# Altium footprint library WS-TOTV.PcbLib: 12 footprints
Each footprint in its own frame and in the unit in brackets; x right, y up, seen from the top. Pads: shape width x height; smd on the part's side, far side on the other; paste and mask are expansions set on the pad; w line width, h text height; cw(c..) or ccw(c..) is an arc to the next point about the centre after c.
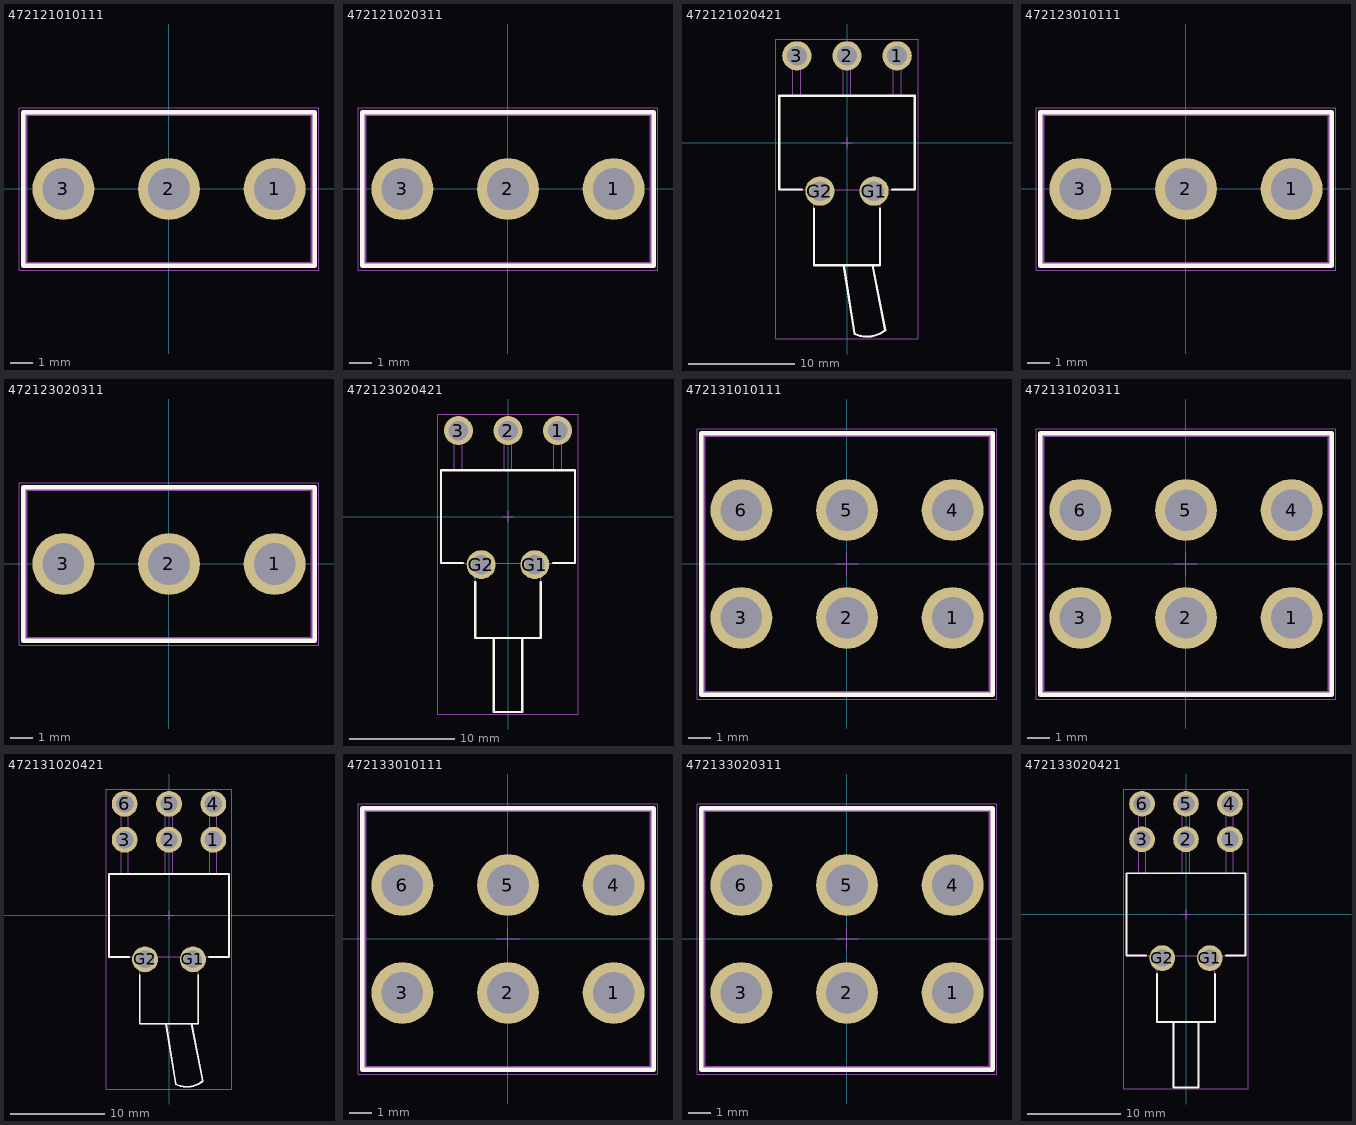
[diagram p0: the footprints below, top view; thin cyan lines are the x and y axes]

## 472121010111 [mm] "THT 6.35mm panel cut out Round actuator with Threaded keyway bushing Toggle Switch"
height 28.2
pads (3):
  round 2.75 hole 1.85: 1(4.7,0) 2(0,0) 3(-4.7,0)
Top Overlay:
  lines w0.2: -6.475,-3.425 6.475,-3.425 6.475,3.425 -6.475,3.425 -6.475,-3.425
Top Designator:
  text ".Designator" at -7.498,-0.5 h1.5
Top Component Outline:
  lines w0.1: -6.35,-3.3 6.35,-3.3 6.35,3.3 -6.35,3.3 -6.35,-3.3
Top Courtyard:
  lines w0.05: -0.5,0 0.5,0 ; 0,-0.5 0,0.5 ; -6.675,-3.625 6.675,-3.625 6.675,3.625 -6.675,3.625 -6.675,-3.625
3D body "472121010111.stp": height 28.88, standoff -6.1, extent -6.35,-3.3 6.35,3.3

## 472121020311 [mm]
height 23.2
pads (3):
  round 2.75 hole 1.85: 1(4.7,0) 2(0,0) 3(-4.7,0)
Top Overlay:
  lines w0.2: -6.475,-3.425 6.475,-3.425 6.475,3.425 -6.475,3.425 -6.475,-3.425
Top Designator:
  text ".Designator" at -7.51,-0.513 h1.5
Top Component Outline:
  lines w0.1: -6.35,-3.3 6.35,-3.3 6.35,3.3 -6.35,3.3 -6.35,-3.3
Top Courtyard:
  lines w0.05: -0.5,0 0.5,0 ; 0,-0.5 0,0.5 ; -6.675,-3.625 6.675,-3.625 6.675,3.625 -6.675,3.625 -6.675,-3.625
3D body "472121020311.stp": height 23.7, standoff -6.1, extent -6.35,-3.3 6.35,3.3

## 472121020421 [mm] "THT 6,35 mm panel cut out Round actuator with Plain keyway bushing Toggle Switch"
height 6.6
pads (5):
  round 2.75 hole 1.85: 1(4.7,8.15) 2(0,8.15) 3(-4.7,8.15) G1(2.54,-4.55) G2(-2.54,-4.55)
Top Overlay:
  lines w0.2: -4.25,-4.4 -6.35,-4.4 -6.35,4.4 6.35,4.4 6.35,-4.4 4.25,-4.4 ; -3.1,-6.2 -3.1,-11.5 3.1,-11.5 3.1,-6.2 ; -0.3,-11.5 0.717,-17.92 ccw(c1.891,-15.531) 3.583,-17.586 2.4,-11.5
Top Designator:
  text ".Designator" at -7.498,-0.5 h1.5
Top Component Outline:
  lines w0.1: -5.075,4.4 -5.075,8.68 -4.325,8.68 -4.325,4.4 ; -3.1,-4.4 -3.1,-11.5 3.1,-11.5 3.1,-4.4 ; -0.375,4.4 -0.375,8.68 0.375,8.68 0.375,4.4 ; -0.3,-11.5 0.717,-17.92 ccw(c1.891,-15.531) 3.583,-17.586 2.4,-11.5 ; 4.325,4.4 4.325,8.68 5.075,8.68 5.075,4.4 ; -6.35,-4.4 6.35,-4.4 6.35,4.4 -6.35,4.4 -6.35,-4.4
Top Courtyard:
  lines w0.05: -0.5,0 0.5,0 ; 0,-0.5 0,0.5 ; -6.675,-18.412 6.675,-18.412 6.675,9.725 -6.675,9.725 -6.675,-18.412
3D body "472121020421.stp": height 7.15, standoff -2.57, extent -6.35,-18.212 6.35,8.68

## 472123010111 [mm] "THT 6,35 mm panel cut out"
height 28.5
pads (3):
  round 2.75 hole 1.85: 1(4.7,0) 2(0,0) 3(-4.7,0)
Top Overlay:
  lines w0.2: -6.475,-3.425 -6.475,3.425 6.475,3.425 6.475,-3.425 -6.475,-3.425
Top Designator:
  text ".Designator" at -7.498,-0.5 h1.5
Top Component Outline:
  lines w0.1: -6.35,-3.3 -6.35,3.3 6.35,3.3 6.35,-3.3 -6.35,-3.3
Top Courtyard:
  lines w0.05: -0.5,0 0.5,0 ; 0,-0.5 0,0.5 ; -6.675,-3.625 -6.675,3.625 6.675,3.625 6.675,-3.625 -6.675,-3.625
3D body "472123010111.stp": height 29, standoff -6.1, extent -6.35,-3.3 6.35,3.3

## 472123020311 [mm]
height 23.4
pads (3):
  round 2.75 hole 1.85: 1(4.7,0) 2(0,0) 3(-4.7,0)
Top Overlay:
  lines w0.2: -6.475,-3.425 -6.475,3.425 6.475,3.425 6.475,-3.425 -6.475,-3.425
Top Designator:
  text ".Designator" at -7.498,-0.5 h1.5
Top Component Outline:
  lines w0.1: -6.35,-3.3 -6.35,3.3 6.35,3.3 6.35,-3.3 -6.35,-3.3
Top Courtyard:
  lines w0.05: -0.5,0 0.5,0 ; 0,-0.5 0,0.5 ; -6.675,-3.625 -6.675,3.625 6.675,3.625 6.675,-3.625 -6.675,-3.625
3D body "472123020311.stp": height 23.9, standoff -6.1, extent -6.35,-3.3 6.35,3.3

## 472123020421 [mm] "THT 6.35 mm panel cut out Round actuator with Plain keyway bushing Toggle Switch"
height 23.4
pads (5):
  round 2.75 hole 1.85: 1(4.7,8.15) 2(0,8.15) 3(-4.7,8.15) G1(2.54,-4.55) G2(-2.54,-4.55)
Top Overlay:
  lines w0.2: -4.25,-4.4 -6.35,-4.4 -6.35,4.4 6.35,4.4 6.35,-4.4 4.25,-4.4 ; -3.1,-6.2 -3.1,-11.5 3.1,-11.5 3.1,-6.2 ; -1.35,-11.5 -1.35,-18.5 1.35,-18.5 1.35,-11.5
Top Designator:
  text ".Designator" at -7.498,-0.5 h1.5
Top Component Outline:
  lines w0.1: -5.075,4.4 -5.075,8.68 -4.325,8.68 -4.325,4.4 ; -3.1,-4.4 -3.1,-11.5 3.1,-11.5 3.1,-4.4 ; -1.35,-11.5 -1.35,-18.5 1.35,-18.5 1.35,-11.5 ; -0.375,4.4 -0.375,8.68 0.375,8.68 0.375,4.4 ; 4.325,4.4 4.325,8.68 5.075,8.68 5.075,4.4 ; -6.35,-4.4 6.35,-4.4 6.35,4.4 -6.35,4.4 -6.35,-4.4
Top Courtyard:
  lines w0.05: -0.5,0 0.5,0 ; 0,-0.5 0,0.5 ; -6.675,-18.7 6.675,-18.7 6.675,9.725 -6.675,9.725 -6.675,-18.7
3D body "472123020421.stp": height 7.15, standoff -2.57, extent -6.35,-18.5 6.35,8.68

## 472131010111 [mm] "THT 6,35 mm panel cut out Rounded actuator with Threaded keyway bushing Toggle Switch"
height 29.6
pads (6):
  round 2.75 hole 1.85: 1(4.7,-2.4) 2(0,-2.4) 3(-4.7,-2.4) 4(4.7,2.4) 5(0,2.4) 6(-4.7,2.4)
Top Overlay:
  lines w0.2: -6.475,-5.825 6.475,-5.825 6.475,5.825 -6.475,5.825 -6.475,-5.825
Top Designator:
  text ".Designator" at -7.498,-0.5 h1.5
Top Component Outline:
  lines w0.1: -6.35,-5.7 6.35,-5.7 6.35,5.7 -6.35,5.7 -6.35,-5.7
Top Courtyard:
  lines w0.05: -0.5,0 0.5,0 ; 0,-0.5 0,0.5 ; -6.675,-6.025 6.675,-6.025 6.675,6.025 -6.675,6.025 -6.675,-6.025
3D body "472131010111.stp": height 29.66, standoff -5.15, extent -6.35,-5.7 6.35,5.7

## 472131020311 [mm]
height 24.6
pads (6):
  round 2.75 hole 1.85: 1(4.7,-2.4) 2(0,-2.4) 3(-4.7,-2.4) 4(4.7,2.4) 5(0,2.4) 6(-4.7,2.4)
Top Overlay:
  lines w0.2: -6.475,-5.825 6.475,-5.825 6.475,5.825 -6.475,5.825 -6.475,-5.825
Top Designator:
  text ".Designator" at -7.498,-0.5 h1.5
Top Component Outline:
  lines w0.1: -6.35,-5.7 6.35,-5.7 6.35,5.7 -6.35,5.7 -6.35,-5.7
Top Courtyard:
  lines w0.05: -0.5,0 0.5,0 ; 0,-0.5 0,0.5 ; -6.675,-6.025 6.675,-6.025 6.675,6.025 -6.675,6.025 -6.675,-6.025
3D body "472131020311.stp": height 24.78, standoff -5.55, extent -6.35,-5.7 6.35,5.7

## 472131020421 [mm] "THT 6,35 mm panel cut  out Round actuator with Plain  keyway bushing Toggle Switch"
height 11.4
pads (8):
  round 2.75 hole 1.85: 1(4.7,8.025) 2(0,8.025) 3(-4.7,8.025) 4(4.7,11.835) 5(0,11.835) 6(-4.7,11.835) G1(2.54,-4.675) G2(-2.54,-4.675)
Top Overlay:
  lines w0.2: -4.25,-4.4 -6.35,-4.4 -6.35,4.4 6.35,4.4 6.35,-4.4 4.25,-4.4 ; -3.1,-6.3 -3.1,-11.5 3.1,-11.5 3.1,-6.3 ; -0.3,-11.5 0.717,-17.92 ccw(c1.891,-15.531) 3.583,-17.586 2.4,-11.5
Top Designator:
  text ".Designator" at -7.498,-0.5 h1.5
Top Component Outline:
  lines w0.1: -5.075,4.4 -5.075,12.465 -4.325,12.465 -4.325,4.4 ; -5.075,8.655 -4.325,8.655 ; -3.1,-4.4 -3.1,-11.5 3.1,-11.5 3.1,-4.4 ; -0.375,4.4 -0.375,12.465 0.375,12.465 0.375,4.4 ; -0.375,8.655 0.375,8.655 ; -0.3,-11.5 0.717,-17.92 ccw(c1.891,-15.531) 3.583,-17.586 2.4,-11.5 ; 4.325,4.4 4.325,12.465 5.075,12.465 5.075,4.4 ; 4.325,8.655 5.075,8.655 ; -6.35,-4.4 6.35,-4.4 6.35,4.4 -6.35,4.4 -6.35,-4.4
Top Courtyard:
  lines w0.05: -0.5,0 0.5,0 ; 0,-0.5 0,0.5 ; -6.675,-18.43 -6.675,13.41 6.675,13.41 6.675,-18.43 -6.675,-18.43
3D body "472131020421.stp": height 11.5, standoff -2.91, extent -6.35,-18.23 6.35,12.465

## 472133010111 [mm]
height 29.9
pads (6):
  round 2.75 hole 1.85: 1(4.7,-2.4) 2(0,-2.4) 3(-4.7,-2.4) 4(4.7,2.4) 5(0,2.4) 6(-4.7,2.4)
Top Overlay:
  lines w0.2: -6.475,-5.825 6.475,-5.825 6.475,5.825 -6.475,5.825 -6.475,-5.825
Top Designator:
  text ".Designator" at -7.498,-0.5 h1.5
Top Component Outline:
  lines w0.1: -6.35,-5.7 6.35,-5.7 6.35,5.7 -6.35,5.7 -6.35,-5.7
Top Courtyard:
  lines w0.05: -0.5,0 0.5,0 ; 0,-0.5 0,0.5 ; -6.675,-6.025 6.675,-6.025 6.675,6.025 -6.675,6.025 -6.675,-6.025
3D body "472133010111.stp": height 29.95, standoff -5.55, extent -6.35,-5.7 6.35,5.7

## 472133020311 [mm]
height 24.8
pads (6):
  round 2.75 hole 1.85: 1(4.7,-2.4) 2(0,-2.4) 3(-4.7,-2.4) 4(4.7,2.4) 5(0,2.4) 6(-4.7,2.4)
Top Overlay:
  lines w0.2: -6.475,-5.825 6.475,-5.825 6.475,5.825 -6.475,5.825 -6.475,-5.825
Top Designator:
  text ".Designator" at -7.498,-0.5 h1.5
Top Component Outline:
  lines w0.1: -6.35,-5.7 6.35,-5.7 6.35,5.7 -6.35,5.7 -6.35,-5.7
Top Courtyard:
  lines w0.05: -0.5,0 0.5,0 ; 0,-0.5 0,0.5 ; -6.675,-6.025 6.675,-6.025 6.675,6.025 -6.675,6.025 -6.675,-6.025
3D body "472133020311.stp": height 24.85, standoff -5.55, extent -6.35,-5.7 6.35,5.7

## 472133020421 [mm] "THT 6.35 mm panel cut out Round actuator with Plain keyway bushing Toggle Switch"
height 11.4
pads (8):
  round 2.75 hole 1.85: 1(4.7,8.025) 2(0,8.025) 3(-4.7,8.025) 4(4.7,11.835) 5(0,11.835) 6(-4.7,11.835) G1(2.54,-4.675) G2(-2.54,-4.675)
Top Overlay:
  lines w0.2: -4.25,-4.4 -6.35,-4.4 -6.35,4.4 6.35,4.4 6.35,-4.4 4.25,-4.4 ; -3.1,-6.35 -3.1,-11.5 3.1,-11.5 3.1,-6.35 ; -1.35,-11.5 -1.35,-18.5 1.35,-18.5 1.35,-11.5
Top Designator:
  text ".Designator" at -7.498,-0.5 h1.5
Top Component Outline:
  lines w0.1: -5.075,4.4 -5.075,12.465 -4.325,12.465 -4.325,4.4 ; -5.075,8.655 -4.325,8.655 ; -3.1,-4.4 -3.1,-11.5 3.1,-11.5 3.1,-4.4 ; -1.35,-11.5 -1.35,-18.5 1.35,-18.5 1.35,-11.5 ; -0.375,4.4 -0.375,12.465 0.375,12.465 0.375,4.4 ; -0.375,8.655 0.375,8.655 ; 4.325,4.4 4.325,12.465 5.075,12.465 5.075,4.4 ; 4.325,8.655 5.075,8.655 ; -6.35,-4.4 -6.35,4.4 6.35,4.4 6.35,-4.4 -6.35,-4.4
Top Courtyard:
  lines w0.05: -0.5,0 0.5,0 ; 0,-0.5 0,0.5 ; -6.675,-18.675 6.675,-18.675 6.675,13.41 -6.675,13.41 -6.675,-18.675
3D body "472133020421.stp": height 11.5, standoff -2.91, extent -6.35,-18.475 6.35,12.465